# Altium footprint library Oscillator.PcbLib: 62 footprints (part 1 of 4)
Each footprint in its own frame and in the unit in brackets; x right, y up, seen from the top. Pads: shape width x height; smd on the part's side, far side on the other; paste and mask are expansions set on the pad; w line width, h text height; cw(c..) or ccw(c..) is an arc to the next point about the centre after c.
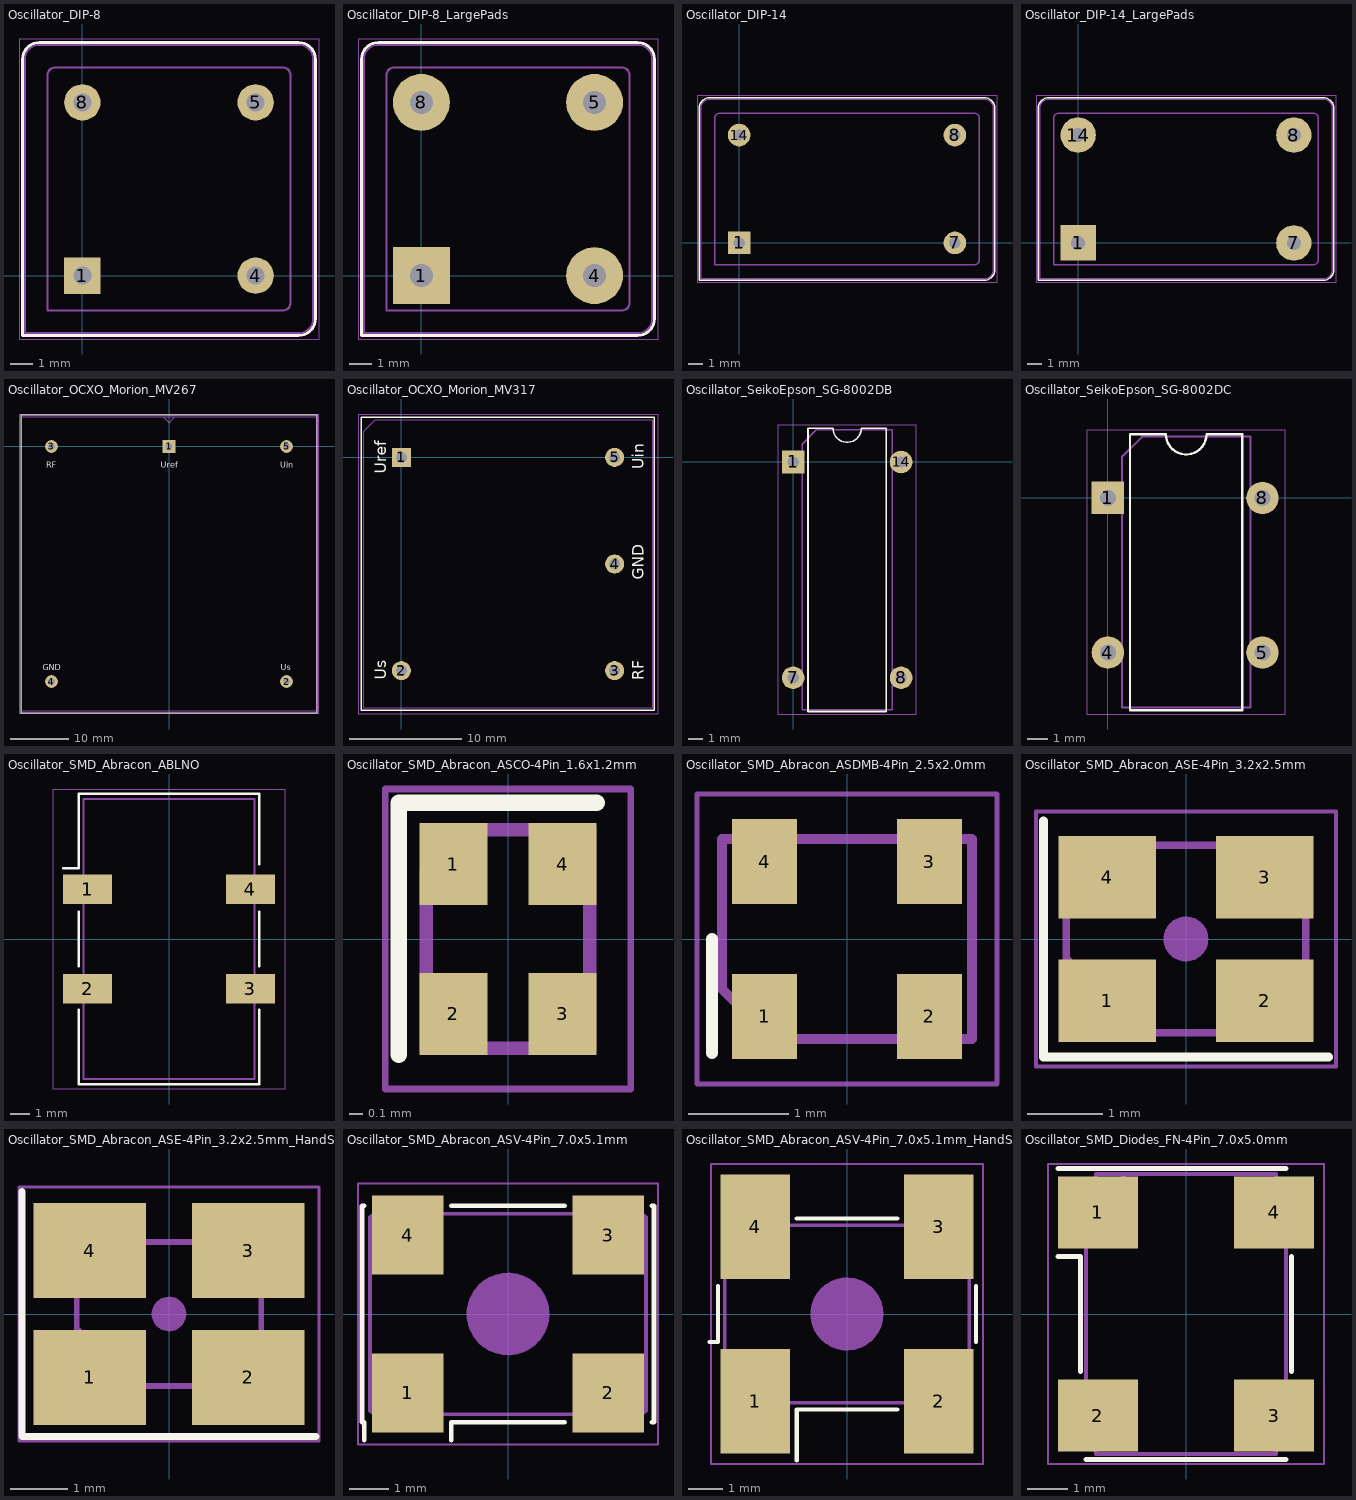
[diagram p0: the footprints below, top view; thin cyan lines are the x and y axes]

## Oscillator_DIP-8 [mm]
pads (4):
  rect 1.6x1.6 hole 0.8: 1(0,0)
  round 1.6 hole 0.8: 4(7.62,0) 5(7.62,7.62) 8(0,7.62)
F.SilkS:
  lines w0.12: -2.64,-2.64 -2.64,9.51 cw(c-1.89,9.51) -1.89,10.26 9.51,10.26 cw(c9.51,9.51) 10.26,9.51 10.26,-1.89 cw(c9.51,-1.89) 9.51,-2.64 -2.64,-2.64
F.CrtYd:
  lines w0.05: -2.79,-2.79 -2.79,10.41 10.41,10.41 10.41,-2.79 -2.79,-2.79
F.Fab:
  lines w0.1: -2.54,-2.54 9.51,-2.54 ccw(c9.51,-1.89) 10.16,-1.89 10.16,9.51 ccw(c9.51,9.51) 9.51,10.16 -1.89,10.16 ccw(c-1.89,9.51) -2.54,9.51 -2.54,-2.54 ; -1.54,-1.54 -1.54,8.81 cw(c-1.19,8.81) -1.19,9.16 8.81,9.16 cw(c8.81,8.81) 9.16,8.81 9.16,-1.19 cw(c8.81,-1.19) 8.81,-1.54 -1.54,-1.54
  text "'.Designator'" at -0.237,2.97 h1

## Oscillator_DIP-8_LargePads [mm]
pads (4):
  rect 2.5x2.5 hole 1: 1(0,0)
  round 2.5 hole 1: 4(7.62,0) 5(7.62,7.62) 8(0,7.62)
F.SilkS:
  lines w0.12: -2.64,-2.64 9.51,-2.64 ccw(c9.51,-1.89) 10.26,-1.89 10.26,9.51 ccw(c9.51,9.51) 9.51,10.26 -1.89,10.26 ccw(c-1.89,9.51) -2.64,9.51 -2.64,-2.64
F.CrtYd:
  lines w0.05: -2.79,-2.79 -2.79,10.41 10.41,10.41 10.41,-2.79 -2.79,-2.79
F.Fab:
  lines w0.1: -2.54,-2.54 9.51,-2.54 ccw(c9.51,-1.89) 10.16,-1.89 10.16,9.51 ccw(c9.51,9.51) 9.51,10.16 -1.89,10.16 ccw(c-1.89,9.51) -2.54,9.51 -2.54,-2.54 ; -1.54,-1.54 -1.54,8.81 cw(c-1.19,8.81) -1.19,9.16 8.81,9.16 cw(c8.81,8.81) 9.16,8.81 9.16,-1.19 cw(c8.81,-1.19) 8.81,-1.54 -1.54,-1.54
  text "'.Designator'" at -0.237,2.97 h1

## Oscillator_DIP-14 [mm]
pads (4):
  rect 1.6x1.6 hole 0.8: 1(0,0)
  round 1.6 hole 0.8: 7(15.24,0) 8(15.24,7.62) 14(0,7.62)
F.SilkS:
  lines w0.12: -2.83,-2.64 -2.83,9.51 cw(c-2.08,9.51) -2.08,10.26 17.32,10.26 cw(c17.32,9.51) 18.07,9.51 18.07,-1.89 cw(c17.32,-1.89) 17.32,-2.64 -2.83,-2.64
F.CrtYd:
  lines w0.05: -2.98,-2.79 18.22,-2.79 18.22,10.41 -2.98,10.41 -2.98,-2.79
F.Fab:
  lines w0.1: -2.73,-2.54 17.32,-2.54 ccw(c17.32,-1.89) 17.97,-1.89 17.97,9.51 ccw(c17.32,9.51) 17.32,10.16 -2.08,10.16 ccw(c-2.08,9.51) -2.73,9.51 -2.73,-2.54 ; -1.73,-1.54 -1.73,8.81 cw(c-1.38,8.81) -1.38,9.16 16.62,9.16 cw(c16.62,8.81) 16.97,8.81 16.97,-1.19 cw(c16.62,-1.19) 16.62,-1.54 -1.73,-1.54
  text "'.Designator'" at 3.573,2.97 h1

## Oscillator_DIP-14_LargePads [mm]
pads (4):
  rect 2.5x2.5 hole 1: 1(0,0)
  round 2.5 hole 1: 7(15.24,0) 8(15.24,7.62) 14(0,7.62)
F.SilkS:
  lines w0.12: -2.83,-2.64 17.32,-2.64 ccw(c17.32,-1.89) 18.07,-1.89 18.07,9.51 ccw(c17.32,9.51) 17.32,10.26 -2.08,10.26 ccw(c-2.08,9.51) -2.83,9.51 -2.83,-2.64
F.CrtYd:
  lines w0.05: -2.98,-2.79 18.22,-2.79 18.22,10.41 -2.98,10.41 -2.98,-2.79
F.Fab:
  lines w0.1: -2.73,-2.54 -2.73,9.51 cw(c-2.08,9.51) -2.08,10.16 17.32,10.16 cw(c17.32,9.51) 17.97,9.51 17.97,-1.89 cw(c17.32,-1.89) 17.32,-2.54 -2.73,-2.54 ; -1.73,-1.54 -1.73,8.81 cw(c-1.38,8.81) -1.38,9.16 16.62,9.16 cw(c16.62,8.81) 16.97,8.81 16.97,-1.19 cw(c16.62,-1.19) 16.62,-1.54 -1.73,-1.54
  text "'.Designator'" at 3.573,2.97 h1

## Oscillator_OCXO_Morion_MV267 [mm]
pads (5):
  rect 2.2x2.2 hole 1.2: 1(0,0)
  round 2.2 hole 1.2: 2(20.3,-40.6) 3(-20.3,0) 4(-20.3,-40.6) 5(20.3,0)
F.SilkS:
  lines w0.12: -25.6,-46 25.6,-46 25.6,5.4 -25.6,5.4 -25.6,-46
  text "Us" at 19.317,-38.65 h1
  text "Uin" at 19.234,-3.674 h1
  text "GND" at -21.826,-38.65 h1
  text "Uref" at -1.42,-3.65 h1
  text "RF" at -21.205,-3.65 h1
F.CrtYd:
  lines w0.05: -25.9,-46.2 -25.9,5.6 25.9,5.6 25.9,-46.2 -25.9,-46.2
F.Fab:
  lines w0.1: -1,5.1 0,4.1 1,5.1 ; -25.4,-45.7 -25.4,5.1 25.4,5.1 25.4,-45.7 -25.4,-45.7
  text "'.Designator'" at -3.897,-22.69 h1

## Oscillator_OCXO_Morion_MV317 [mm]
pads (5):
  rect 1.7x1.7 hole 1: 1(0,0)
  round 1.7 hole 1: 2(0,-19.05) 3(19.05,-19.05) 4(19.05,-9.525) 5(19.05,0)
F.SilkS:
  lines w0.12: -3.6,-22.6 -3.6,3.6 22.6,3.6 22.6,-22.6 -3.6,-22.6
  text "Uref" at -1.35,-1.44 h1
  text "RF" at 21.65,-19.905 h1
  text "Us" at -1.35,-19.883 h1
  text "Uin" at 21.674,-1.066 h1
  text "GND" at 21.65,-10.926 h1
F.CrtYd:
  lines w0.05: -3.88,-22.93 22.93,-22.93 22.93,3.88 -3.88,3.88 -3.88,-22.93
F.Fab:
  lines w0.1: -3.375,-22.425 22.425,-22.425 22.425,3.375 -2.35,3.375 -3.375,2.35 -3.375,-22.425
  text "'.Designator'" at 6.003,-11.19 h1

## Oscillator_SeikoEpson_SG-8002DB [mm]
pads (4):
  rect 1.6x1.6 hole 0.8: 1(0,0)
  rrect100% 1.6x1.6 hole 0.8: 7(0,-15.24) 8(7.62,-15.24) 14(7.62,0)
F.SilkS:
  lines w0.12: 1.04,-17.63 1.04,2.39 2.81,2.39 ccw(c3.81,2.39) 4.81,2.39 6.58,2.39 6.58,-17.63 1.04,-17.63
F.CrtYd:
  lines w0.05: -1.1,-17.8 8.7,-17.8 8.7,2.6 -1.1,2.6 -1.1,-17.8
F.Fab:
  lines w0.1: 0.64,-17.51 0.64,1.27 1.64,2.27 6.99,2.27 6.99,-17.51 0.64,-17.51
  text "'.Designator'" at -0.232,-8.46 h1

## Oscillator_SeikoEpson_SG-8002DC [mm]
pads (4):
  rect 1.6x1.6 hole 0.8: 1(0,0)
  rrect100% 1.6x1.6 hole 0.8: 4(0,-7.62) 5(7.62,-7.62) 8(7.62,0)
F.SilkS:
  lines w0.12: 1.09,-10.46 1.09,3.14 2.86,3.14 ccw(c3.86,3.14) 4.86,3.14 6.63,3.14 6.63,-10.46 1.09,-10.46
F.CrtYd:
  lines w0.05: -1.05,-10.65 -1.05,3.35 8.75,3.35 8.75,-10.65 -1.05,-10.65
F.Fab:
  lines w0.1: 0.69,-10.34 7.04,-10.34 7.04,3.02 1.69,3.02 0.69,2.02 0.69,-10.34
  text "'.Designator'" at -0.182,-4.5 h1

## Oscillator_SMD_Abracon_ABLNO [mm]
pads (4):
  rect 2.5x1.5 smd: 1(-4.15,2.54) 2(-4.15,-2.54) 3(4.15,-2.54) 4(4.15,2.54)
F.SilkS:
  lines w0.12: -5.4,3.6 -4.6,3.6 -4.6,7.4 4.6,7.4 4.6,3.8 ; -4.6,-3.6 -4.6,-7.4 4.6,-7.4 4.6,-3.6 ; -4.6,-1.4 -4.6,1.4 ; 4.6,-1.4 4.6,1.4
F.CrtYd:
  lines w0.05: -5.9,-7.65 5.9,-7.65 5.9,7.65 -5.9,7.65 -5.9,-7.65
F.Fab:
  lines w0.1: -4.35,2 -3.6,2.6 -4.35,3.2 ; -4.35,-7.15 4.35,-7.15 4.35,7.15 -4.35,7.15 -4.35,-7.15
  text "'.Designator'" at -4.047,-0.84 h1

## Oscillator_SMD_Abracon_ASCO-4Pin_1.6x1.2mm [mm]
pads (4):
  rect 0.5x0.6 smd: 1(-0.4,0.55) 2(-0.4,-0.55) 3(0.4,-0.55) 4(0.4,0.55)
F.SilkS:
  lines w0.12: -0.8,-0.85 -0.8,1 0.65,1
F.CrtYd:
  lines w0.05: -0.9,-1.1 -0.9,1.1 0.9,1.1 0.9,-1.1 -0.9,-1.1
F.Fab:
  lines w0.1: -0.6,-0.8 0.6,-0.8 0.6,0.8 -0.3,0.8 -0.6,0.5 -0.6,-0.8
  text "'.Designator'" at 0.292,-1.414 h0.35

## Oscillator_SMD_Abracon_ASDMB-4Pin_2.5x2.0mm [mm]
pads (4):
  rect 0.65x0.85 smd: 1(-0.825,-0.775) 2(0.825,-0.775) 3(0.825,0.775) 4(-0.825,0.775)
F.SilkS:
  lines w0.12: -1.35,-1.14 -1.35,0
F.CrtYd:
  lines w0.05: -1.5,-1.45 1.5,-1.45 1.5,1.45 -1.5,1.45 -1.5,-1.45
F.Fab:
  lines w0.1: -1.25,-0.5 -1.25,1 1.25,1 1.25,-1 -0.75,-1 -1.25,-0.5
  text "'.Designator'" at -2.443,-0.519 h0.6

## Oscillator_SMD_Abracon_ASE-4Pin_3.2x2.5mm [mm]
pads (4):
  rect 1.3x1.1 smd: 1(-1.05,-0.825) 2(1.05,-0.825) 3(1.05,0.825) 4(-1.05,0.825)
F.SilkS:
  lines w0.12: -1.9,1.575 -1.9,-1.575 1.9,-1.575
F.CrtYd:
  lines w0.05: -2,-1.7 2,-1.7 2,1.7 -2,1.7 -2,-1.7
F.Fab:
  lines w0.1: -1.6,-0.25 -0.6,-1.25 ; -1.6,-1.15 -1.6,1.15 -1.5,1.25 1.5,1.25 1.6,1.15 1.6,-1.15 1.5,-1.25 -1.5,-1.25 -1.6,-1.15
  text "'.Designator'" at -2.833,-0.588 h0.7
F.Adhes:
  circle w0.117: c0,0 r0.058
  circle w0.083: c0,0 r0.208
  circle w0.083: c0,0 r0.133
  circle w0.1: c0,0 r0.25

## Oscillator_SMD_Abracon_ASE-4Pin_3.2x2.5mm_HandSoldering [mm]
pads (4):
  rect 1.95x1.65 smd: 1(-1.375,-1.1) 2(1.375,-1.1) 3(1.375,1.1) 4(-1.375,1.1)
F.SilkS:
  lines w0.12: -2.55,2.125 -2.55,-2.125 2.55,-2.125
F.CrtYd:
  lines w0.05: -2.6,-2.2 2.6,-2.2 2.6,2.2 -2.6,2.2 -2.6,-2.2
F.Fab:
  lines w0.1: -1.6,-0.25 -0.6,-1.25 ; -1.6,-1.15 -1.6,1.15 -1.5,1.25 1.5,1.25 1.6,1.15 1.6,-1.15 1.5,-1.25 -1.5,-1.25 -1.6,-1.15
  text "'.Designator'" at -2.833,-0.588 h0.7
F.Adhes:
  circle w0.117: c0,0 r0.058
  circle w0.1: c0,0 r0.25
  circle w0.083: c0,0 r0.133
  circle w0.083: c0,0 r0.208

## Oscillator_SMD_Abracon_ASV-4Pin_7.0x5.1mm [mm]
pads (4):
  rect 1.8x2 smd: 1(-2.54,-2) 2(2.54,-2) 3(2.54,2) 4(-2.54,2)
F.SilkS:
  lines w0.12: -3.64,-3.2 -3.64,-2.74 -3.7,-2.74 -3.7,2.74 -3.64,2.74 ; -1.44,-3.2 -1.44,-2.74 1.44,-2.74 ; -1.44,2.74 1.44,2.74 ; 3.64,-2.74 3.7,-2.74 3.7,2.74 3.64,2.74
F.CrtYd:
  lines w0.05: -3.8,-3.3 -3.8,3.3 3.8,3.3 3.8,-3.3 -3.8,-3.3
F.Fab:
  lines w0.1: -3.5,-1.54 -2.5,-2.54 ; -3.5,-2.44 -3.5,2.44 -3.4,2.54 3.4,2.54 3.5,2.44 3.5,-2.44 3.4,-2.54 -3.4,-2.54 -3.5,-2.44
  text "'.Designator'" at -4.047,-0.84 h1
F.Adhes:
  circle w0.1: c0,0 r1
  circle w0.333: c0,0 r0.533
  circle w0.467: c0,0 r0.233
  circle w0.333: c0,0 r0.833

## Oscillator_SMD_Abracon_ASV-4Pin_7.0x5.1mm_HandSoldering [mm]
pads (4):
  rect 1.98x3 smd: 1(-2.63,-2.5) 2(2.63,-2.5) 3(2.63,2.5) 4(-2.63,2.5)
F.SilkS:
  lines w0.12: -3.94,-0.8 -3.7,-0.8 -3.7,0.8 ; -1.44,-4.2 -1.44,-2.74 1.44,-2.74 ; -1.44,2.74 1.44,2.74 ; 3.7,-0.8 3.7,0.8
F.CrtYd:
  lines w0.05: -3.9,-4.3 -3.9,4.3 3.9,4.3 3.9,-4.3 -3.9,-4.3
F.Fab:
  lines w0.1: -3.5,-1.54 -2.5,-2.54 ; -3.5,-2.44 -3.5,2.44 -3.4,2.54 3.4,2.54 3.5,2.44 3.5,-2.44 3.4,-2.54 -3.4,-2.54 -3.5,-2.44
  text "'.Designator'" at -4.047,-0.84 h1
F.Adhes:
  circle w0.467: c0,0 r0.233
  circle w0.1: c0,0 r1
  circle w0.333: c0,0 r0.533
  circle w0.333: c0,0 r0.833

## Oscillator_SMD_Diodes_FN-4Pin_7.0x5.0mm [mm]
pads (4):
  rect 2x1.8 smd: 1(-2.2,2.54) 2(-2.2,-2.54) 3(2.2,-2.54) 4(2.2,2.54)
F.SilkS:
  lines w0.12: -3.2,1.44 -2.64,1.44 -2.64,-1.44 ; -3.2,3.64 2.5,3.64 ; -2.5,-3.64 2.5,-3.64 ; 2.64,-1.44 2.64,1.44
F.CrtYd:
  lines w0.05: -3.45,-3.75 -3.45,3.75 3.45,3.75 3.45,-3.75 -3.45,-3.75
F.Fab:
  lines w0.1: -2.5,2.5 -1.5,3.5 ; -2.5,-3.25 -2.5,3.25 ccw(c-2.5,3.5) -2.25,3.5 2.25,3.5 ccw(c2.5,3.5) 2.5,3.25 2.5,-3.25 ccw(c2.5,-3.5) 2.25,-3.5 -2.25,-3.5 ccw(c-2.5,-3.5) -2.5,-3.25
  text "'.Designator'" at -4.047,-0.84 h1